# EAGLE library part EVJC (library pot)
POTENTIOMETER - 12MM
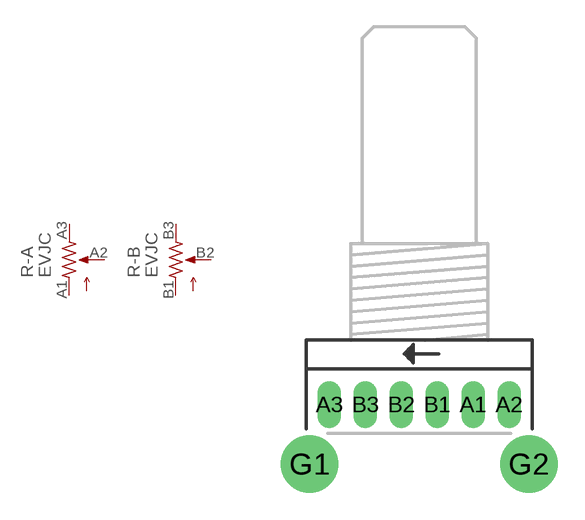
[diagram p0: symbol with the pads of EVJC; footprint EVJC]

Designator prefix R; gates -A=POT_US- -B=POT_US-

## EVJC  [EVJC]
A1  -A:1  pas
A2  -A:2  pas
A3  -A:3  pas
B1  -B:1  pas
B2  -B:2  pas
B3  -B:3  pas

## Footprint EVJC (pad centres in mm)
12mm Audio Potentiometer Panasonic EVJ
drill 0.813 long: A1 3,0; A2 5,0; A3 -5,0; B1 1,0; B2 -1,0; B3 -3,0
drill 2.184: G1 -6.1,-3.3; G2 6.1,-3.3